# Altium schematic symbol library Schlib1.SchLib: 14 symbols
Pins are listed as number, name and electrical type; pins without a type are passive.

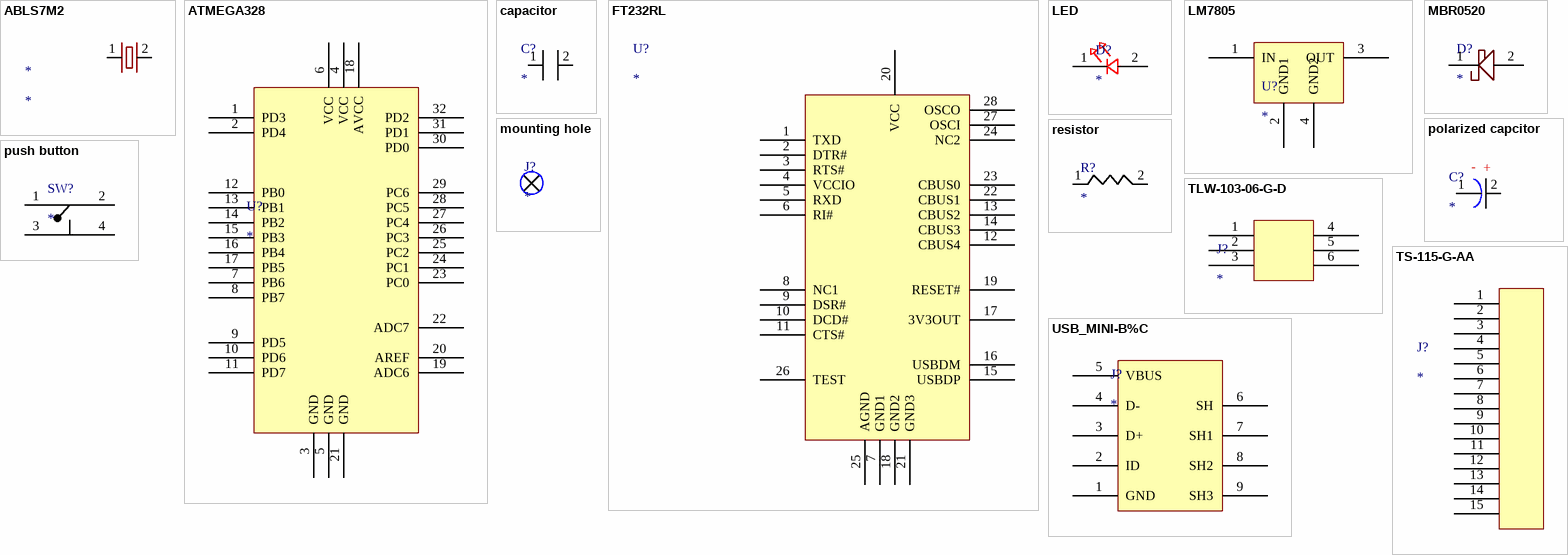
[diagram p0: symbols ABLS7M2 to USB_MINI-B%C]

## ABLS7M2
designator *
footprint crystal - duplicate
pins: 1 252, 2 253

## ATMEGA328
designator U?
footprint ATMEGEA328
pins: 1 PD3, 2 PD4, 3 GND, 4 VCC, 5 GND, 6 VCC, 7 PB6, 8 PB7, 9 PD5, 10 PD6, 11 PD7, 12 PB0, 13 PB1, 14 PB2, 15 PB3, 16 PB4, 17 PB5, 18 AVCC, 19 ADC6, 20 AREF, 21 GND, 22 ADC7, 23 PC0, 24 PC1, 25 PC2, 26 PC3, 27 PC4, 28 PC5, 29 PC6, 30 PD0, 31 PD1, 32 PD2

## capacitor
designator C?
footprint Capacitor
pins: 1 155, 2 154

## FT232RL
designator U?
footprint FT232RL
pins: 1 TXD, 2 DTR#, 3 RTS#, 4 VCCIO, 5 RXD, 6 RI#, 7 GND1, 8 NC1, 9 DSR#, 10 DCD#, 11 CTS#, 12 CBUS4, 13 CBUS2, 14 CBUS3, 15 USBDP, 16 USBDM, 17 3V3OUT, 18 GND2, 19 RESET#, 20 VCC, 21 GND3, 22 CBUS1, 23 CBUS0, 24 NC2, 25 AGND, 26 TEST, 27 OSCI, 28 OSCO

## LED
designator D?
footprint LED
pins: 1 156, 2 157

## LM7805
designator U?
footprint LM7805
pins: 1 IN, 2 GND1, 3 OUT, 4 GND2

## MBR0520
designator D?
footprint MBR0520
pins: 1 180, 2 179

## mounting hole
designator J?
footprint PIN

## polarized capcitor
designator C?
footprint polar Capacitor
pins: 1 155, 2 154
text: -; +

## push button
designator SW?
footprint push button
pins: 1 254, 2 255, 3 256, 4 257

## resistor
designator R?
footprint Resistor
pins: 1 153, 2 152

## TLW-103-06-G-D
designator J?
footprint pin header3x2
pins: 1 10, 2 11, 3 12, 4 13, 5 14, 6

## TS-115-G-AA
designator J?
footprint PCBComponent_1
pins: 1 158, 2 159, 3 160, 4 161, 5 162, 6 163, 7 164, 8 165, 9 166, 10 167, 11 168, 12 169, 13 170, 14 171, 15 172

## USB_MINI-B%C
designator J?
footprint USB MINI_B
pins: 1 GND, 2 ID, 3 D+, 4 D-, 5 VBUS, 6 SH, 7 SH1, 8 SH2, 9 SH3